# Altium footprint library Current_Management.PcbLib: 2 footprints
Each footprint in its own frame and in the unit in brackets; x right, y up, seen from the top. Pads: shape width x height; smd on the part's side, far side on the other; paste and mask are expansions set on the pad; w line width, h text height; cw(c..) or ccw(c..) is an arc to the next point about the centre after c.
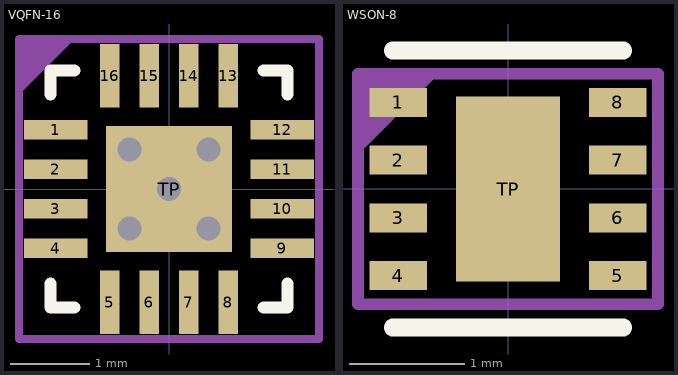
[diagram p0: the footprints below, top view; thin cyan lines are the x and y axes]

## VQFN-16 [mm]
pads (17):
  rect 0.8x0.25 smd mask+0.05: 1(-1.435,0.75) 2(-1.435,0.25) 3(-1.435,-0.25) 4(-1.435,-0.75) 9(1.435,-0.75) 10(1.435,-0.25) 11(1.435,0.25) 12(1.435,0.75)
  rect 0.25x0.8 smd mask+0.05: 5(-0.75,-1.435) 6(-0.25,-1.435) 7(0.25,-1.435) 8(0.75,-1.435) 13(0.75,1.435) 14(0.25,1.435) 15(-0.25,1.435) 16(-0.75,1.435)
  rect 1.6x1.6 smd mask+0.05: TP(0,0)
via -0.5,-0.5 diameter 0.6 hole 0.3
via -0.5,0.5 diameter 0.6 hole 0.3
via 0.5,-0.5 diameter 0.6 hole 0.3
via 0.5,0.5 diameter 0.6 hole 0.3
via 0,0 diameter 0.6 hole 0.3
Top Overlay:
  lines w0.153: -1.5,-1.2 -1.5,-1.5 -1.2,-1.5 ; -1.5,1.2 -1.5,1.5 -1.2,1.5 ; 1.2,-1.5 1.5,-1.5 1.5,-1.2 ; 1.2,1.5 1.5,1.5 1.5,1.2
  text "." at -2.347,1.253 h0.8
Top Assembly:
  region: -1.9,1.9 -1.2,1.9 -1.9,1.2
  lines w0.1: -1.9,-1.9 1.9,-1.9 1.9,1.9 -1.9,1.9 -1.9,-1.9
  text "'.Designator'" at -4.532,-0.333 h0.8
Mechanical 15:
  lines w0.1: -0.3,0 0.3,0 ; 0,-0.3 0,0.3 ; -1.9,-1.9 -1.9,1.9 1.9,1.9 1.9,-1.9 -1.9,-1.9
3D body "BQ25504RGTR.STEP": height 1, standoff 0, extent -1.5,-1.5 1.5,1.5

## WSON-8 [mm]
pads (9):
  rect 0.5x0.25 smd mask+0.05: 1(-0.95,0.75) 2(-0.95,0.25) 3(-0.95,-0.25) 4(-0.95,-0.75) 5(0.95,-0.75) 6(0.95,-0.25) 7(0.95,0.25) 8(0.95,0.75)
  rect 0.9x1.6 smd mask+0.05: TP(0,0)
Top Overlay:
  lines w0.153: -1,-1.2 1,-1.2 ; -1,1.2 1,1.2
  text "." at -1.947,0.753 h0.8
Top Assembly:
  region: -1.3,1 -0.6,1 -1.3,0.3
  lines w0.1: -1.3,-1 -1.3,1 1.3,1 1.3,-1 -1.3,-1
  text "'.Designator'" at -4.532,-0.333 h0.8
Mechanical 15:
  lines w0.1: -0.3,0 0.3,0 ; 0,-0.3 0,0.3 ; -1.3,-1 -1.3,1 1.3,1 1.3,-1 -1.3,-1
3D body "SON8-2x2mm-1.step": height 0.79, standoff -0.01, extent -1,-1 1,1